# Altium schematic symbol library LIS331DLHTR.SchLib: 2 symbols
Pins are listed as number, name and electrical type; pins without a type are passive.

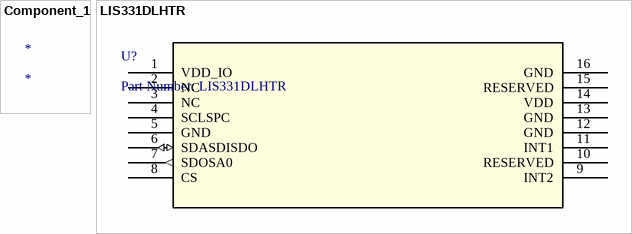
[diagram p0: symbols Component_1 to LIS331DLHTR]

## Component_1
designator *

## LIS331DLHTR
designator U?, comment Part Number: LIS331DLHTR
No Description Available; Vendor: STMicroelectronics; Built_By: EMA_UL_Team; Manufacturer_Part_Number: LIS331DLHTR; Copyright: Copyright (C) 2018 Accelerated Designs. All rights reserved; RefDes: RefDes; Type: DEV; Value: Value
footprint LGA-16_3x3x1mm
pins: 1 VDD_IO (power), 2 NC, 3 NC, 4 SCLSPC, 5 GND (power), 6 SDASDISDO (io), 7 SDOSA0 (out), 8 CS, 9 INT2, 10 RESERVED, 11 INT1, 12 GND (power), 13 GND (power), 14 VDD (power), 15 RESERVED, 16 GND (power)